# Altium schematic symbol library mylibrary.SchLib: 11 symbols
Pins are listed as number, name and electrical type; pins without a type are passive.

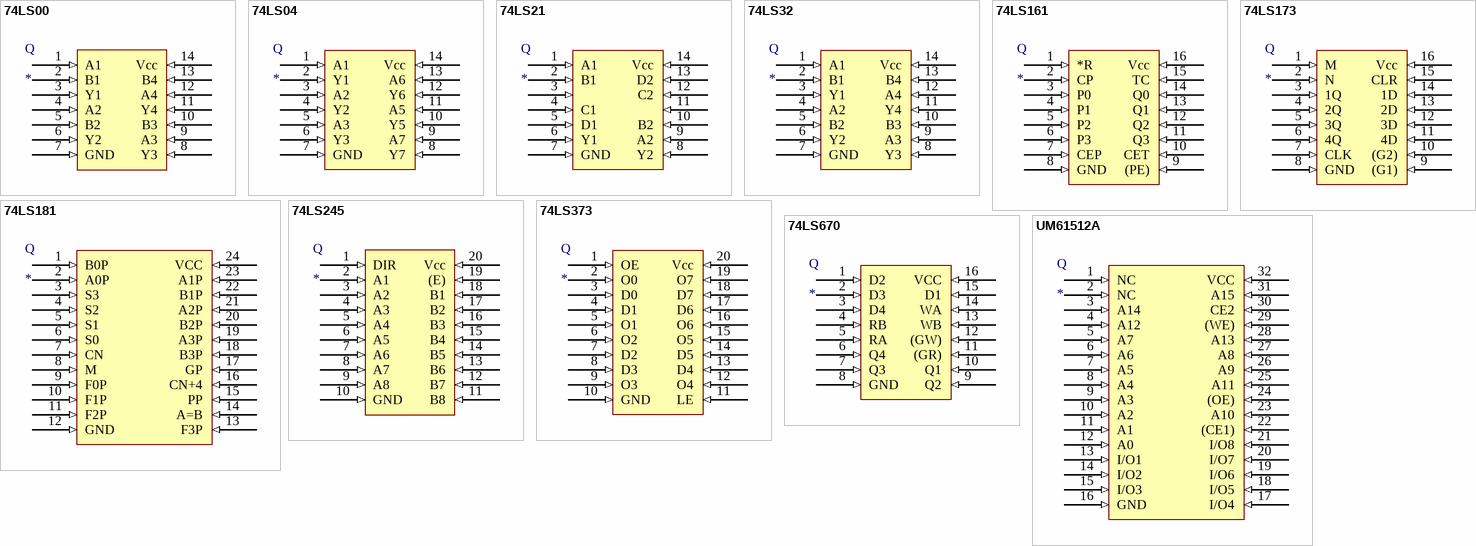
[diagram p0: symbols 74LS00 to UM61512A]

## 74LS00
designator Q
Quad 2-Input NAND Gate
footprint DIP14
pins: 1 A1 (in), 2 B1 (in), 3 Y1 (in), 4 A2 (in), 5 B2 (in), 6 Y2 (in), 7 GND (in), 8 Y3 (in), 9 A3 (in), 10 B3 (in), 11 Y4 (in), 12 A4 (in), 13 B4 (in), 14 Vcc (in)

## 74LS04
designator Q
Hex Inverting Gates
footprint DIP14
pins: 1 A1 (in), 2 Y1 (in), 3 A2 (in), 4 Y2 (in), 5 A3 (in), 6 Y3 (in), 7 GND (in), 8 Y7 (in), 9 A7 (in), 10 Y5 (in), 11 A5 (in), 12 Y6 (in), 13 A6 (in), 14 Vcc (in)

## 74LS21
designator Q
DUAL 4-INPUT AND GATE
footprint DIP14
pins: 1 A1 (in), 2 B1 (in), 3 (in), 4 C1 (in), 5 D1 (in), 6 Y1 (in), 7 GND (in), 8 Y2 (in), 9 A2 (in), 10 B2 (in), 11 (in), 12 C2 (in), 13 D2 (in), 14 Vcc (in)

## 74LS32
designator Q
Quad 2-Input OR Gate
footprint DIP14
pins: 1 A1 (in), 2 B1 (in), 3 Y1 (in), 4 A2 (in), 5 B2 (in), 6 Y2 (in), 7 GND (in), 8 Y3 (in), 9 A3 (in), 10 B3 (in), 11 Y4 (in), 12 A4 (in), 13 B4 (in), 14 Vcc (in)

## 74LS161
designator Q
4-BIT BINARY COUNTERS
footprint DIP16
pins: 1 *R (in), 2 CP (in), 3 P0 (in), 4 P1 (in), 5 P2 (in), 6 P3 (in), 7 CEP (in), 8 GND (in), 9 (PE) (in), 10 CET (in), 11 Q3 (in), 12 Q2 (in), 13 Q1 (in), 14 Q0 (in), 15 TC (in), 16 Vcc (in)

## 74LS173
designator Q
4-BIT D-TYPE REGISTERS WITH 3-STATE OUTPUTS
footprint DIP16
pins: 1 M (in), 2 N (in), 3 1Q (in), 4 2Q (in), 5 3Q (in), 6 4Q (in), 7 CLK (in), 8 GND (in), 9 (G1) (in), 10 (G2) (in), 11 4D (in), 12 3D (in), 13 2D (in), 14 1D (in), 15 CLR (in), 16 Vcc (in)

## 74LS181
designator Q
4-Bit Arithmetic Logic Unit
footprint DIP24
pins: 1 B0P (in), 2 A0P (in), 3 S3 (in), 4 S2 (in), 5 S1 (in), 6 S0 (in), 7 CN (in), 8 M (in), 9 F0P (in), 10 F1P (in), 11 F2P (in), 12 GND (in), 13 F3P (in), 14 A=B (in), 15 PP (in), 16 CN+4 (in), 17 GP (in), 18 B3P (in), 19 A3P (in), 20 B2P (in), 21 A2P (in), 22 B1P (in), 23 A1P (in), 24 VCC (in)

## 74LS245
designator Q
OCTAL BUS TRANSCEIVER
footprint DIP20
pins: 1 DIR (in), 2 A1 (in), 3 A2 (in), 4 A3 (in), 5 A4 (in), 6 A5 (in), 7 A6 (in), 8 A7 (in), 9 A8 (in), 10 GND (in), 11 B8 (in), 12 B7 (in), 13 B6 (in), 14 B5 (in), 15 B4 (in), 16 B3 (in), 17 B2 (in), 18 B1 (in), 19 (E) (in), 20 Vcc (in)

## 74LS373
designator Q
OCTAL TRANSPARENT LATCH WITH 3-STATE OUTPUTS
footprint DIP20
pins: 1 OE (in), 2 O0 (in), 3 D0 (in), 4 D1 (in), 5 O1 (in), 6 O2 (in), 7 D2 (in), 8 D3 (in), 9 O3 (in), 10 GND (in), 11 LE (in), 12 O4 (in), 13 D4 (in), 14 D5 (in), 15 O5 (in), 16 O6 (in), 17 D6 (in), 18 D7 (in), 19 O7 (in), 20 Vcc (in)

## 74LS670
designator Q
4-BY-4 REGISTER FILES WITH 3-STATE OUTPUTS
footprint DIP16
pins: 1 D2 (in), 2 D3 (in), 3 D4 (in), 4 RB (in), 5 RA (in), 6 Q4 (in), 7 Q3 (in), 8 GND (in), 9 Q2 (in), 10 Q1 (in), 11 (GR) (in), 12 (GW) (in), 13 WB (in), 14 WA (in), 15 D1 (in), 16 VCC (in)

## UM61512A
designator Q
64K X 8 BIT HIGH SPEED CMOS SRAM
footprint DIP32
pins: 1 NC (in), 2 NC (in), 3 A14 (in), 4 A12 (in), 5 A7 (in), 6 A6 (in), 7 A5 (in), 8 A4 (in), 9 A3 (in), 10 A2 (in), 11 A1 (in), 12 A0 (in), 13 I/O1 (in), 14 I/O2 (in), 15 I/O3 (in), 16 GND (in), 17 I/O4 (in), 18 I/O5 (in), 19 I/O6 (in), 20 I/O7 (in), 21 I/O8 (in), 22 (CE1) (in), 23 A10 (in), 24 (OE) (in), 25 A11 (in), 26 A9 (in), 27 A8 (in), 28 A13 (in), 29 (WE) (in), 30 CE2 (in), 31 A15 (in), 32 VCC (in)